# Altium footprint library led-lumiled.PCBLIB: 4 footprints
Each footprint in its own frame and in the unit in brackets; x right, y up, seen from the top. Pads: shape width x height; smd on the part's side, far side on the other; paste and mask are expansions set on the pad; w line width, h text height; cw(c..) or ccw(c..) is an arc to the next point about the centre after c.
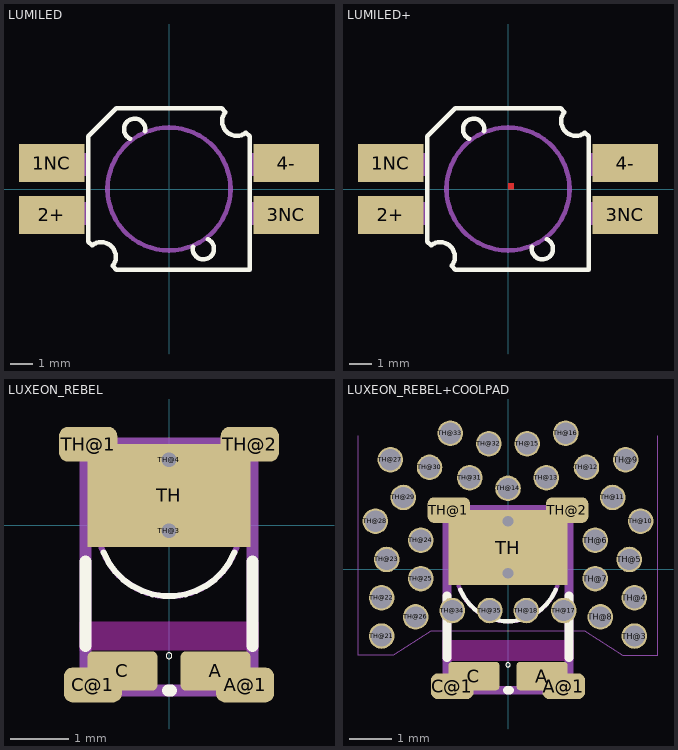
[diagram p0: the footprints below, top view; thin cyan lines are the x and y axes]

## LUMILED [mm]
pads (4):
  rect 2.9x1.7 smd: 1NC(-5.2,1.15) 2+(-5.2,-1.15) 3NC(5.2,-1.15) 4-(5.2,1.15)
Top Overlay:
  lines w0.203: -1.725,2.225 cw(c-1.524,2.65) -1.062,2.563 ; 1.062,-2.563 ccw(c1.524,-2.65) 1.725,-2.225 ; -3.575,-2.338 -3.412,-2.5 cw(c-3.007,-3.007) -2.5,-3.412 -2.338,-3.575 3.575,-3.575 3.575,2.338 3.412,2.5 cw(c3.007,3.007) 2.5,3.412 2.338,3.575 -2.338,3.575 -3.575,2.338 -3.575,-2.338
Top Paste:
  region: 0,0 0.254,0 0.254,0.254 0,0.254
Top Solder:
  region: 0,0 0.254,0 0.254,0.254 0,0.254
Mechanical 16:
  circle w0.203: c0,0 r2.725
  rectangle: -5.975,0.575 -3.625,1.6
  rectangle: -5.975,-1.6 -3.625,-0.575
  region: 5.975,-0.575 3.625,-0.575 3.625,-1.6 5.975,-1.6
  region: 5.975,1.6 3.625,1.6 3.625,0.575 5.975,0.575

## LUMILED+ [mm]
pads (4):
  rect 2.9x1.7 smd: 1NC(-5.2,1.15) 2+(-5.2,-1.15) 3NC(5.2,-1.15) 4-(5.2,1.15)
Top Layer:
  region: 0,0 0.254,0 0.254,0.254 0,0.254
Top Overlay:
  lines w0.203: -1.725,2.225 cw(c-1.524,2.65) -1.062,2.563 ; 1.062,-2.563 ccw(c1.524,-2.65) 1.725,-2.225 ; -3.575,-2.338 -3.412,-2.5 cw(c-3.007,-3.007) -2.5,-3.412 -2.338,-3.575 3.575,-3.575 3.575,2.338 3.412,2.5 cw(c3.007,3.007) 2.5,3.412 2.338,3.575 -2.338,3.575 -3.575,2.338 -3.575,-2.338
Top Paste:
  region: 0,0 0.254,0 0.254,0.254 0,0.254
Top Solder:
  region: 0,0 0.254,0 0.254,0.254 0,0.254
Mechanical 16:
  circle w0.203: c0,0 r2.725
  rectangle: -5.975,0.575 -3.625,1.6
  rectangle: -5.975,-1.6 -3.625,-0.575
  region: 5.975,-0.575 3.625,-0.575 3.625,-1.6 5.975,-1.6
  region: 5.975,1.6 3.625,1.6 3.625,0.575 5.975,0.575

## LUXEON_REBEL [mm]
pads (9):
  rrect25% 1.2x0.67 smd: A(0.8,-2.51) C(-0.8,-2.51)
  rrect50% 1x0.6 smd: A@1(1.31,-2.75) C@1(-1.31,-2.75) TH@1(-1.39,1.39) TH@2(1.39,1.39)
  rect 2.8x1.77 smd: TH(0,0.51)
  round 0.4 hole 0.25: TH@3(0,-0.095) TH@4(0,1.125)
Top Layer keep-out:
  rectangle: -1.54,-2.16 1.54,-1.66
Top Overlay:
  circle w0: c0,-2.248 r0.05
  lines w0.102: -1.125,-0.475 ccw(c0,-0.006) 1.125,-0.475
  lines w0.203: -1.435,-2.083 -1.435,-0.627 ; -0.018,-2.845 0.038,-2.845 ; 1.435,-2.083 1.435,-0.627
Top Paste:
  region: 0,0 0.254,0 0.254,0.254 0,0.254
  region: 0,0 0.254,0 0.254,0.254 0,0.254
  region: 0,0 0.254,0 0.254,0.254 0,0.254
  region: 0,0 0.254,0 0.254,0.254 0,0.254
Top Solder:
  circle w0: c0,-0.095 r0.2
  circle w0: c0,1.125 r0.2
  region: 0,0 0.254,0 0.254,0.254 0,0.254
  region: 0,0 0.254,0 0.254,0.254 0,0.254
  region: 0,0 0.254,0 0.254,0.254 0,0.254
  region: 0,0 0.254,0 0.254,0.254 0,0.254
Mechanical 16:
  circle w0.102: c0,0 r1.225
  circle w0: c1.25,1.25 r0.05
  lines w0.203: -1.435,-2.845 1.435,-2.845 1.435,1.405 -1.435,1.405 -1.435,-2.845

## LUXEON_REBEL+COOLPAD [mm]
pads (40):
  rrect25% 1.2x0.67 smd: A(0.8,-2.51) C(-0.8,-2.51)
  rrect50% 1x0.6 smd: A@1(1.31,-2.75) C@1(-1.31,-2.75) TH@1(-1.39,1.39) TH@2(1.39,1.39)
  rect 2.8x1.77 smd: TH(0,0.51)
  round 0.6 hole 0.5: TH@3(2.971,-1.57) TH@4(2.971,-0.67) TH@5(2.85,0.23) TH@6(2.05,0.68) TH@7(2.05,-0.22) TH@8(2.171,-1.12) TH@9(2.764,2.575) TH@10(3.116,1.13) TH@11(2.46,1.687) TH@12(1.844,2.394) TH@13(0.9,2.15) TH@14(0,1.9) TH@15(0.45,2.95) TH@16(1.356,3.196) TH@17(1.31,-0.97) TH@18(0.43,-0.97) TH@21(-2.971,-1.57) TH@22(-2.971,-0.67) TH@23(-2.85,0.23) TH@24(-2.05,0.68) TH@25(-2.05,-0.22) TH@26(-2.171,-1.12) TH@27(-2.764,2.575) TH@28(-3.116,1.13) TH@29(-2.46,1.687) TH@30(-1.844,2.394) TH@31(-0.9,2.15) TH@32(-0.45,2.95) TH@33(-1.356,3.196) TH@34(-1.31,-0.97) TH@35(-0.43,-0.97)
  round 0.4 hole 0.25: TH@19(0,-0.095) TH@20(0,1.125)
Top Layer keep-out:
  rectangle: -1.54,-2.16 1.54,-1.66
Top Overlay:
  circle w0: c0,-2.248 r0.05
  lines w0.102: -1.125,-0.475 ccw(c0,-0.006) 1.125,-0.475
  lines w0.203: -1.435,-2.083 -1.435,-0.627 ; -0.018,-2.845 0.038,-2.845 ; 1.435,-2.083 1.435,-0.627
Top Paste:
  region: 0,0 0.254,0 0.254,0.254 0,0.254
  region: 0,0 0.254,0 0.254,0.254 0,0.254
  region: 0,0 0.254,0 0.254,0.254 0,0.254
  region: 0,0 0.254,0 0.254,0.254 0,0.254
Top Solder:
  circle w0: c2.971,-1.57 r0.3
  circle w0: c2.971,-0.67 r0.299
  circle w0: c2.85,0.23 r0.3
  circle w0: c2.05,0.68 r0.3
  circle w0: c2.05,-0.22 r0.3
  circle w0: c2.171,-1.12 r0.3
  circle w0: c2.764,2.575 r0.299
  circle w0: c3.116,1.13 r0.301
  circle w0: c2.46,1.687 r0.299
  circle w0: c1.844,2.394 r0.301
  circle w0: c0.9,2.15 r0.3
  circle w0: c0,1.9 r0.3
  circle w0: c0.45,2.95 r0.3
  circle w0: c1.356,3.196 r0.299
  circle w0: c1.31,-0.97 r0.3
  circle w0: c0.43,-0.97 r0.3
  circle w0: c0,-0.095 r0.2
  circle w0: c0,1.125 r0.2
  circle w0: c-2.971,-1.57 r0.3
  circle w0: c-2.971,-0.67 r0.3
  circle w0: c-2.85,0.23 r0.3
  circle w0: c-2.05,0.68 r0.3
  circle w0: c-2.05,-0.22 r0.3
  circle w0: c-2.171,-1.12 r0.299
  circle w0: c-2.764,2.575 r0.299
  circle w0: c-3.116,1.13 r0.3
  circle w0: c-2.46,1.687 r0.3
  circle w0: c-1.844,2.394 r0.301
  circle w0: c-0.9,2.15 r0.3
  circle w0: c-0.45,2.95 r0.3
  circle w0: c-1.356,3.196 r0.301
  circle w0: c-1.31,-0.97 r0.3
  circle w0: c-0.43,-0.97 r0.3
  region: 0,0 0.254,0 0.254,0.254 0,0.254
  region: 0,0 0.254,0 0.254,0.254 0,0.254
  region: 0,0 0.254,0 0.254,0.254 0,0.254
  region: 0,0 0.254,0 0.254,0.254 0,0.254
Mechanical 14:
  lines w0: -3.525,3.142 -3.525,-2.025 -2.7,-2.025 -1.82,-1.46 1.82,-1.46 2.7,-2.025 3.525,-2.025 3.525,3.142
  text "Place here a Polygon with" at -2.921,4.318 h0.47
  text "Singnalname 'TH' in board." at -2.921,3.81 h0.47
Mechanical 16:
  circle w0.102: c0,0 r1.225
  circle w0: c1.25,1.25 r0.05
  lines w0.203: -1.435,-2.845 1.435,-2.845 1.435,1.405 -1.435,1.405 -1.435,-2.845